# Altium schematic symbol library Connectors.SchLib: 19 symbols
Pins are listed as number, name and electrical type; pins without a type are passive.

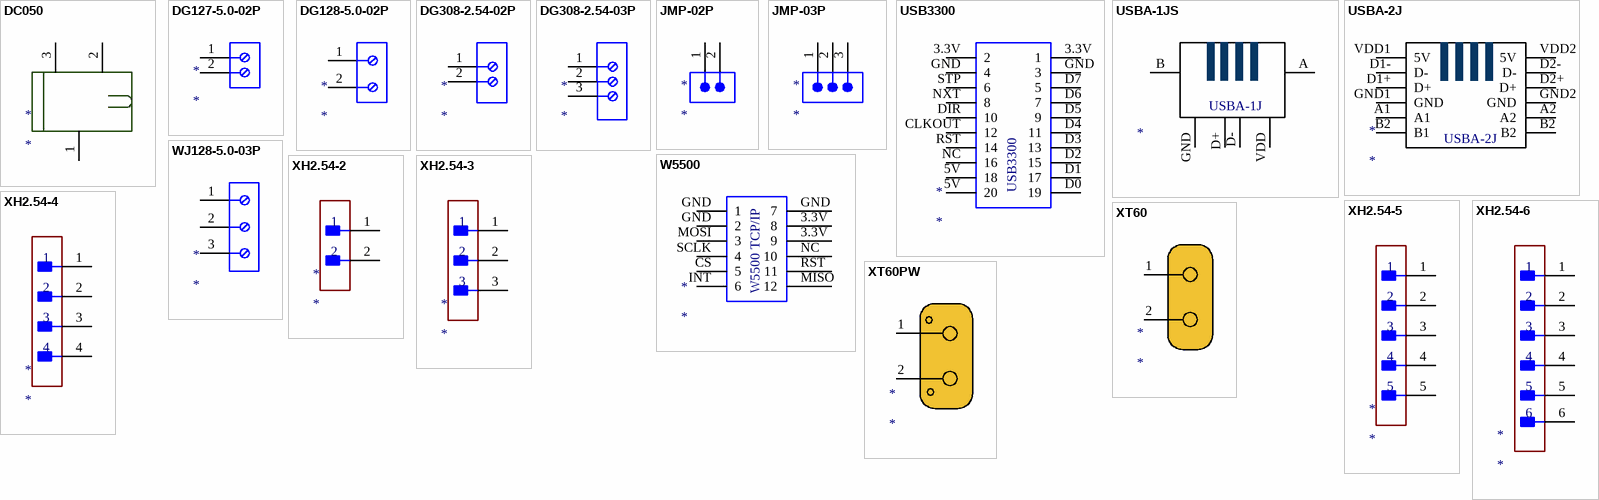
[diagram p0: symbols DC050 to XT60PW]

## DC050
designator *
DC050-T
footprint DC050
pins: 1, 2, 3

## DG127-5.0-02P
designator *
DG127-5.0-02P-14-00Z
footprint DG127-5.0-02P
pins: 1, 2

## DG128-5.0-02P
designator *
DG128-5.0-02P-14
footprint DG128-5.0-02P
pins: 1, 2

## DG308-2.54-02P
designator *
DG308-2.54-02P-14-00AH
footprint DG308-2.54-02P
pins: 1, 2

## DG308-2.54-03P
designator *
DG308-2.54-03P-14-00AH
footprint DG308-2.54-03P
pins: 1, 2, 3

## JMP-02P
designator *
PLS-1x2
footprint JMP-02P
pins: 1, 2

## JMP-03P
designator *
PLS-1x3
footprint JMP-03P
pins: 1, 2, 3

## USB3300
designator *
USB3300HS
footprint USB3300
pins: 3.3V 2, 3.3V 1, 5V 20, 5V 18, CLKOUT 12, D0 19, D1 17, D2 15, D3 13, D4 11, D5 9, D6 7, D7 5, DIR 10, GND 4, GND 3, NC 16, NXT 8, RST 14, STP 6

## USBA-1JS
designator *
DS1095-10
footprint USBA-1JS
pins: A, B MH2, D+ 3, D- 2, GND 4, VDD 1
text: USBA-1J

## USBA-2J
designator *
DS1096 W
footprint USBA-2J
pins: A1, A2, B2 B1, B2, D1+ D+, D1- D-, D2+ D+, D2- D-, GND1 GND, GND2 GND, VDD1 5V, VDD2 5V

## W5500
designator *
W5500 TCP/IP
footprint W5500
pins: 3.3V 8, 3.3V 9, CS 5, GND 1, GND 2, GND 7, INT 6, MISO 12, MOSI 3, NC 10, RST 11, SCLK 4

## WJ128-5.0-03P
designator *
WJ128-5.0-03P-14-00A
footprint WJ128-5.0-03P
pins: 1, 2, 3

## XH2.54-2
designator *
JST XH2.54-2pin
footprint XH2.54-2
pins: 1, 2

## XH2.54-3
designator *
JST XH2.54-3pin
footprint XH2.54-3
pins: 1, 2, 3

## XH2.54-4
designator *
JST XH2.54-4pin
footprint XH2.54-4
pins: 1, 2, 3, 4

## XH2.54-5
designator *
JST XH2.54-5pin
footprint XH2.54-5
pins: 1, 2, 3, 4, 5

## XH2.54-6
designator *
JST XH2.54-5pin
footprint XH2.54-6
pins: 1, 2, 3, 4, 5, 6

## XT60
designator *
XT60U-F
footprint XT60
pins: 1 4, 2 5

## XT60PW
designator *
XT60PW-F
footprint XT60PW
pins: 1 4, 2 5